# Altium integrated library micrel.IntLib: 1 symbol
Pins are listed as number, name and electrical type; pins without a type are passive.

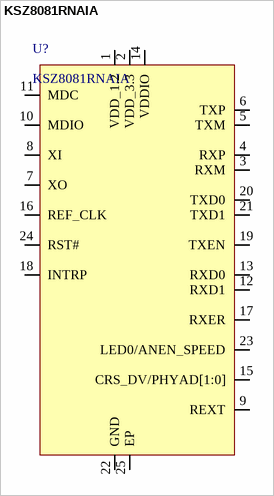
[diagram p0: symbol KSZ8081RNAIA]

## KSZ8081RNAIA
designator U?
TXRX PHY 10/100 3.3V 24QFN
footprint QFN50P400X400X85_HS-25N (QFN, 24-Leads, Body 4.00x4.00mm, Pitch 0.50mm, Thermal Pad 2.60x2.60mm, IPC Medium Density)
pins: 1 VDD_1.2, 2 VDD_3.3, 3 RXM, 4 RXP, 5 TXM, 6 TXP, 7 XO, 8 XI, 9 REXT, 10 MDIO, 11 MDC, 12 RXD1, 13 RXD0, 14 VDDIO, 15 CRS_DV/PHYAD[1:0], 16 REF_CLK, 17 RXER, 18 INTRP, 19 TXEN, 20 TXD0, 21 TXD1, 22 GND, 23 LED0/ANEN_SPEED, 24 RST#, 25 EP